# EAGLE library part 2-1734592-27 (library C3-Connector)
TE/AMP FFC/FPC-to-Board 0.50mm (.020") SMT Bottom Contact Right Angle, ZIF Drawing <http://www.farnell.com/cad/1650059.pdf>
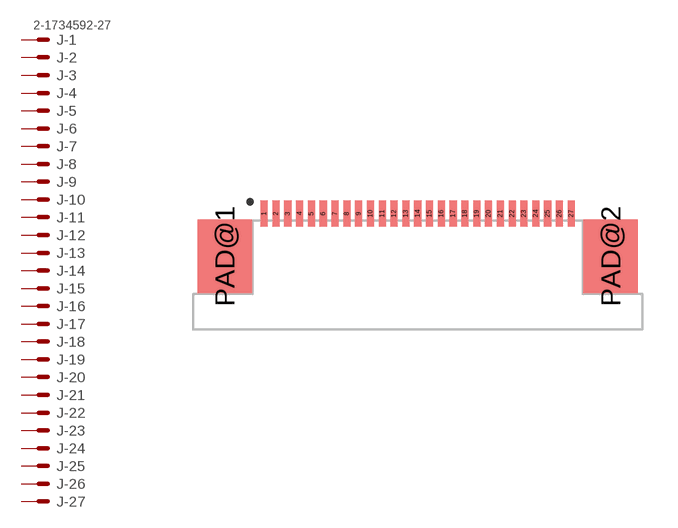
[diagram p3: symbol with the pads of 2-1470360-27; footprint 2-1470360-27]

Designator prefix J; gates -1=MV -2=M -3=M -4=M -5=M -6=M -7=M -8=M -9=M -10=M -11=M -12=M -13=M -14=M -15=M -16=M -17=M -18=M -19=M -20=M -21=M -22=M -23=M -24=M -25=M -26=M -27=M

## 2-1734592-27  [2-1470360-27]
1  -1:S  pas
2  -2:S  pas
3  -3:S  pas
4  -4:S  pas
5  -5:S  pas
6  -6:S  pas
7  -7:S  pas
8  -8:S  pas
9  -9:S  pas
10  -10:S  pas
11  -11:S  pas
12  -12:S  pas
13  -13:S  pas
14  -14:S  pas
15  -15:S  pas
16  -16:S  pas
17  -17:S  pas
18  -18:S  pas
19  -19:S  pas
20  -20:S  pas
21  -21:S  pas
22  -22:S  pas
23  -23:S  pas
24  -24:S  pas
25  -25:S  pas
26  -26:S  pas
27  -27:S  pas

## Footprint 2-1470360-27 (pad centres in mm)
smd 0.3 x 1.1: 1 -7,0; 2 -6.5,0; 3 -6,0; 4 -5.5,0; 5 -5,0; 6 -4.5,0; 7 -4,0; 8 -3.5,0; 9 -3,0; 10 -2.5,0; 11 -2,0; 12 -1.5,0; 13 -1,0; 14 -0.5,0; 15 0,0; 16 0.5,0; 17 1,0; 18 1.5,0; 19 2,0; 20 2.5,0; 21 3,0; 22 3.5,0; 23 4,0; 24 4.5,0; 25 5,0; 26 5.5,0; 27 6,0
smd 2.3 x 3.1: PAD@1 -8.67,-1.8; PAD@2 7.67,-1.8